# Altium footprint library Trans_Diodes_2N7002W-7-F_eec_MFG.PcbLib: 1 footprints
Each footprint in its own frame and in the unit in brackets; x right, y up, seen from the top. Pads: shape width x height; smd on the part's side, far side on the other; paste and mask are expansions set on the pad; w line width, h text height; cw(c..) or ccw(c..) is an arc to the next point about the centre after c.
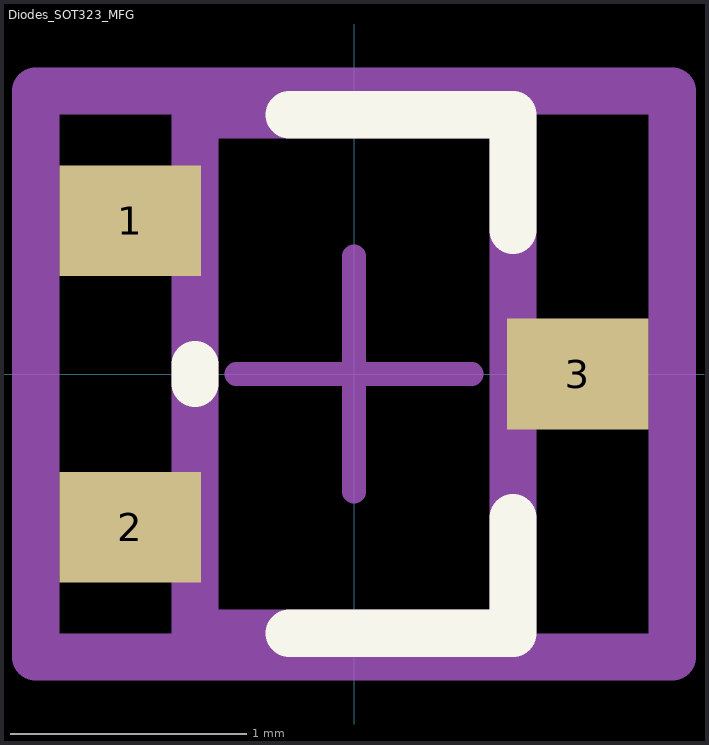
[diagram p0: the footprint, top view; thin cyan lines are the x and y axes]

## Diodes_SOT323_MFG [mm]
pads (3):
  rect 0.6x0.47 smd paste+0 mask+0: 1(-0.95,0.65) 2(-0.95,-0.65) 3(0.95,0)
Top Overlay:
  lines w0.2: -0.675,-0.04 -0.675,0.04 ; -0.275,-1.1 0.675,-1.1 0.675,-0.61 ; -0.275,1.1 0.675,1.1 0.675,0.61
Mechanical 10:
  lines w0.2: -1.35,-1.2 1.35,-1.2 1.35,1.2 -1.35,1.2 -1.35,-1.2
  text ".Designator" at 0,0 h1
Mechanical 12:
  lines w0.2: -0.675,-1.1 0.675,-1.1 0.675,1.1 -0.675,1.1 -0.675,-1.1
Mechanical 15:
  lines w0.1: -0.5,0 0.5,0 ; 0,-0.5 0,0.5
  lines w0.2: -1.35,-1.2 1.35,-1.2 1.35,1.2 -1.35,1.2 -1.35,-1.2
3D body "Trans_Diodes_2N7002W-7-F_eec.STEP": height 0.25, standoff 0, extent -1.35,-1.2 1.35,1.2